# Altium footprint library PcbLib1.PcbLib: 1 footprints
Each footprint in its own frame and in the unit in brackets; x right, y up, seen from the top. Pads: shape width x height; smd on the part's side, far side on the other; paste and mask are expansions set on the pad; w line width, h text height; cw(c..) or ccw(c..) is an arc to the next point about the centre after c.
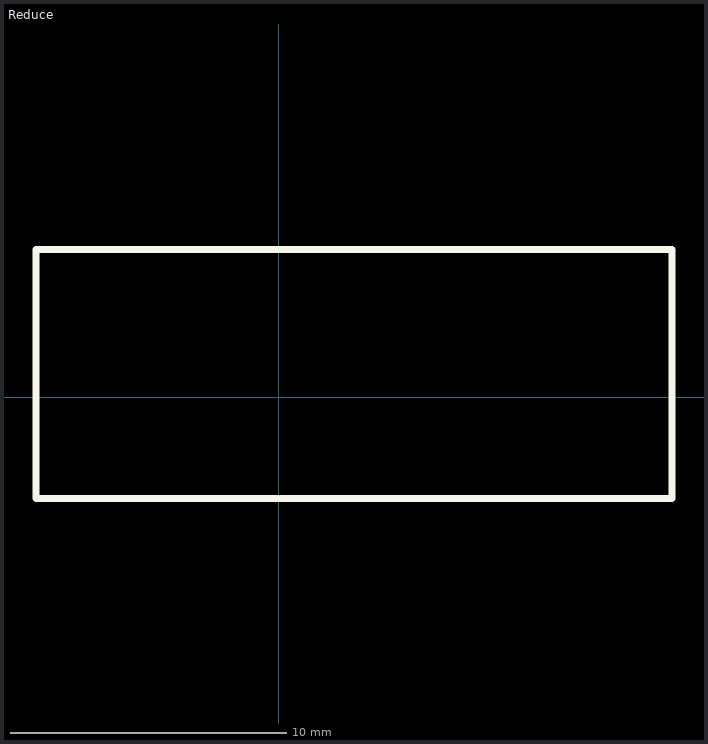
[diagram p0: the footprint, top view; thin cyan lines are the x and y axes]

## Reduce [mm] "降压模块"
Top Overlay:
  lines w0.254: -8.776,-3.666 14.224,-3.666 14.224,5.334 -8.776,5.334 -8.776,-3.666